# EAGLE library part SSD1306-7PIN (library keves-ng)
https://www.aliexpress.com/item/free-shipping-0-96-inch-OLED-display-module-128X64-OLED-For-arduino-I2C-IIC-SPI-7p/32595065668.html?ws_ab_test=searchweb0_0,searchweb201602_1_116_117_10065_10068_114_10067_115_10069_113_10017_10080_10082_10081_10060_10061_10062_10056_10055_10054_10059_10078_10079_10073_10070_10052_10053_10050_10051,searchweb201603_6&btsid=51ed1bae-6cee-4f36-9ddd-1a85c2e0ff68
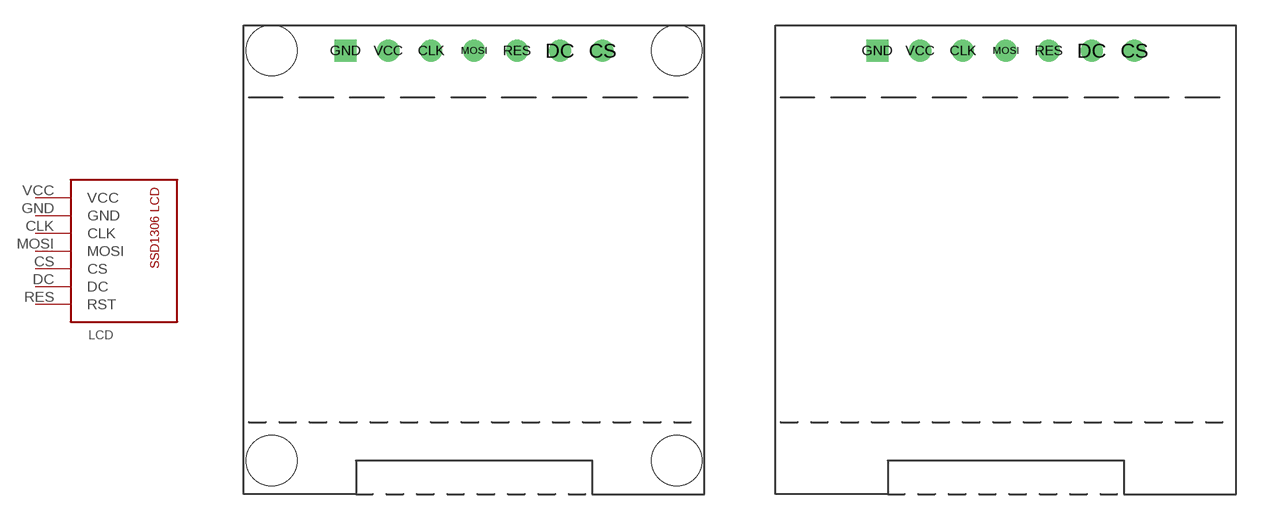
[diagram p3: symbol with the pads of SSD1306-7PIN; footprints SSD1306-7PIN, SSD1306-7PIN-NO-HOLES]

Designator prefix LCD

## SSD1306-7PINWITH-HOLES  [SSD1306-7PIN]
CLK  CLK
CS  CS
DC  DC
GND  GND
MOSI  MOSI
RES  RST
VCC  VCC

## SSD1306-7PINWITHOUT-HOLES (POPULATE: 0)  [SSD1306-7PIN-NO-HOLES]
Pads as for SSD1306-7PIN

## Footprint SSD1306-7PIN (pad centres in mm)
drill 0.8: CLK -2.54,24.3; CS 7.62,24.3; DC 5.08,24.3; MOSI 0,24.3; RES 2.54,24.3; VCC -5.08,24.3
drill 0.8 square: GND -7.62,24.3
hole 3 at -12,24.3
hole 3 at 12,24.3
hole 3 at -12,0
hole 3 at 12,0

## Footprint SSD1306-7PIN-NO-HOLES (pad centres in mm)
drill 0.8: CLK -2.54,24.3; CS 7.62,24.3; DC 5.08,24.3; MOSI 0,24.3; RES 2.54,24.3; VCC -5.08,24.3
drill 0.8 square: GND -7.62,24.3